# Altium footprint library BNC.PcbLib: 1 footprints
Each footprint in its own frame and in the unit in brackets; x right, y up, seen from the top. Pads: shape width x height; smd on the part's side, far side on the other; paste and mask are expansions set on the pad; w line width, h text height; cw(c..) or ccw(c..) is an arc to the next point about the centre after c.
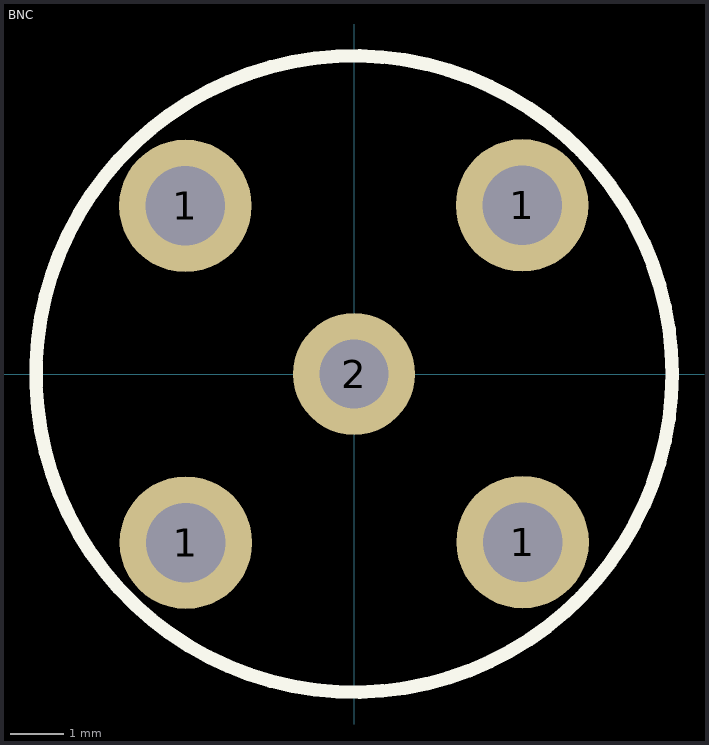
[diagram p0: the footprint, top view; thin cyan lines are the x and y axes]

## BNC [mm]
pads (5):
  round 2.5 hole 1.5: 1(-3.18,3.17) 1(-3.17,-3.18) 1(3.17,3.18) 1(3.18,-3.17)
  round 2.3 hole 1.3: 2(0,0)
Top Overlay:
  circle w0.254: c0,0 r6
3D body "112404.stp": height 13.8, standoff -4.4, extent -5.5,-5.5 5.5,5.5